# EAGLE library part SD-CARD-EXTENSION (library lpatiny)
CONNECTOR
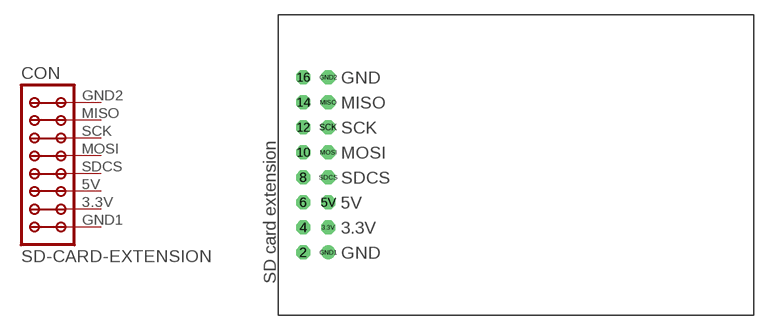
[diagram p10: symbol with the pads of SD-CARD; footprint SD-CARD]

Designator prefix CON

## SD-CARD-EXTENSION (OC_FARNELL: unknown; OC_NEWARK: unknown)  [SD-CARD]
3.3V  3.3V  pas
5V  5V  pas
GND1  GND1  pas
GND2  GND2  pas
MISO  MISO  pas
MOSI  MOSI  pas
SCK  SCK  pas
SDCS  SDCS  pas

## Footprint SD-CARD (pad centres in mm)
CONNECTOR
drill 0.914 octagon: 2 2.54,6.35; 3.3V 5.08,8.89; 4 2.54,8.89; 5V 5.08,11.43; 6 2.54,11.43; 8 2.54,13.97; 10 2.54,16.51; 12 2.54,19.05; 14 2.54,21.59; 16 2.54,24.13; GND2 5.08,24.13; MISO 5.08,21.59; MOSI 5.08,16.51; SCK 5.08,19.05; SDCS 5.08,13.97
drill 0.914: GND1 5.08,6.35